# Altium footprint library PcbLib.PcbLib: 42 footprints (part 1 of 3)
Each footprint in its own frame and in the unit in brackets; x right, y up, seen from the top. Pads: shape width x height; smd on the part's side, far side on the other; paste and mask are expansions set on the pad; w line width, h text height; cw(c..) or ccw(c..) is an arc to the next point about the centre after c.
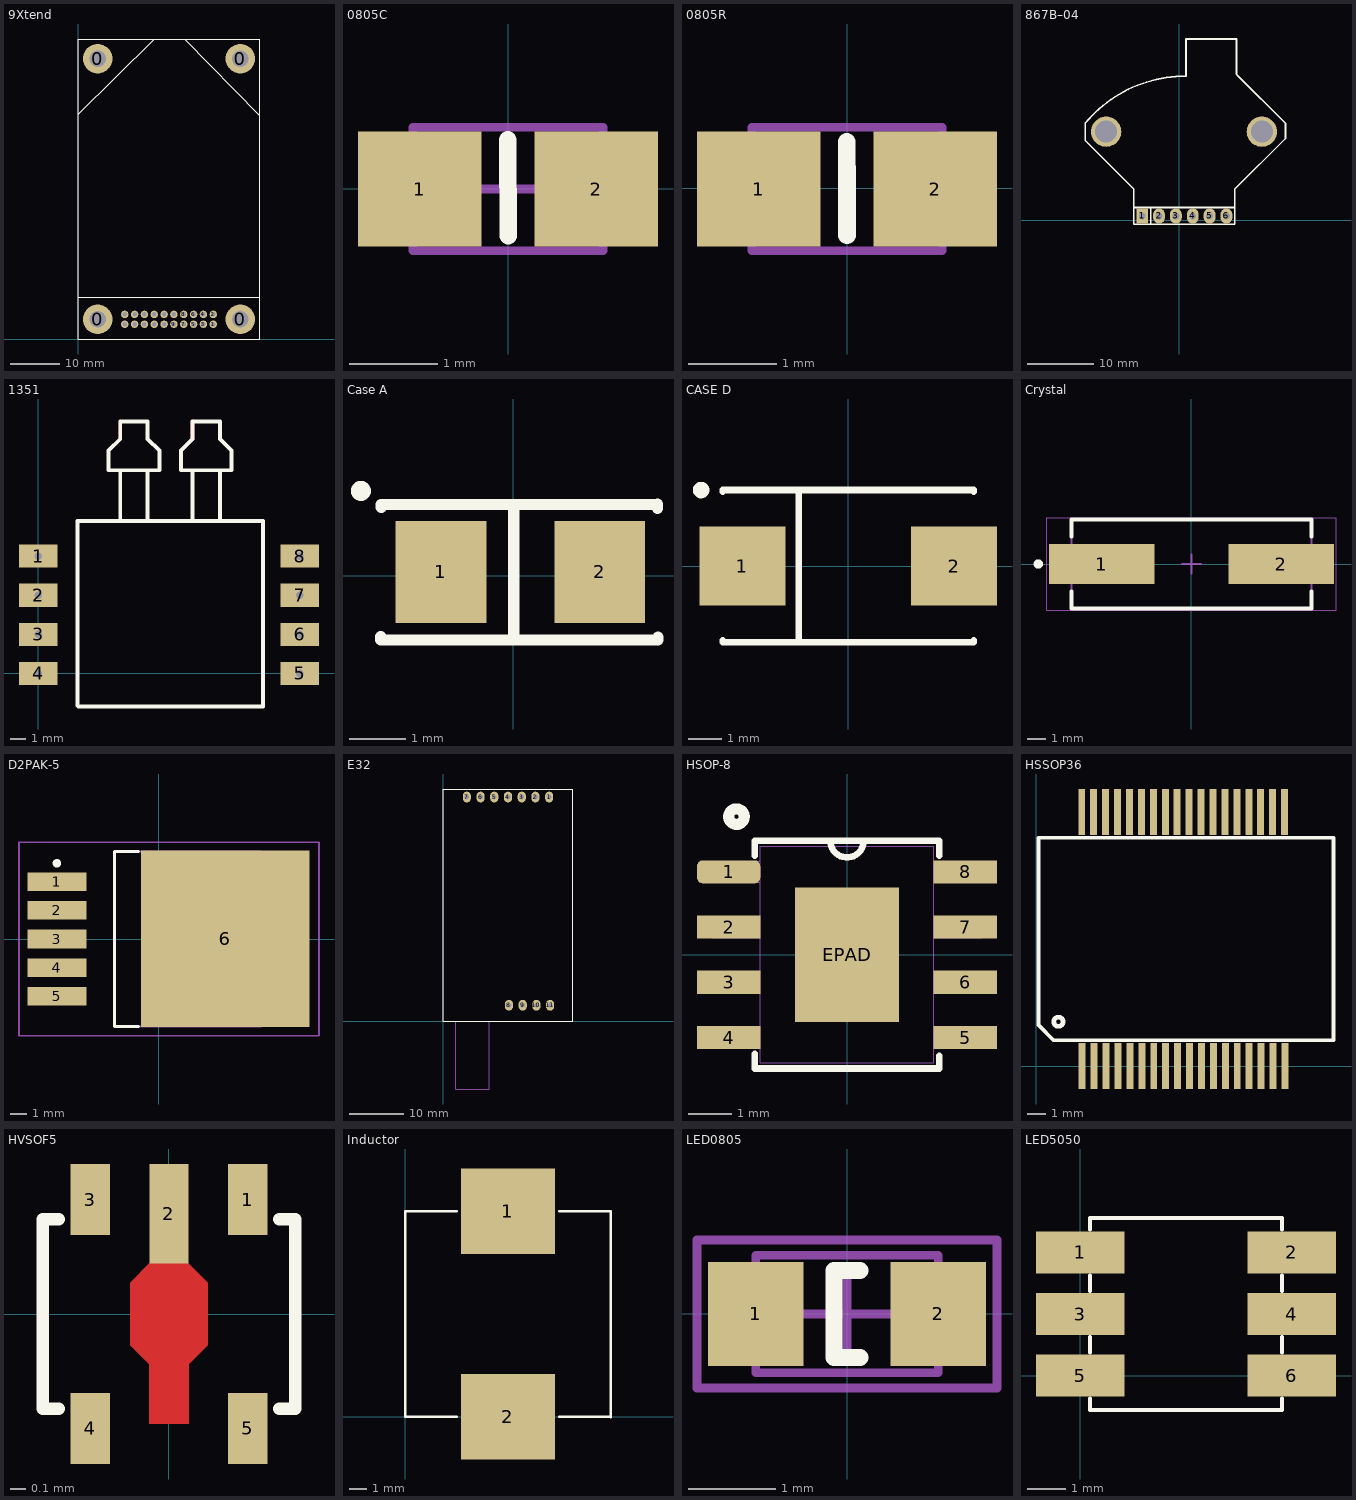
[diagram p0: the footprints below, top view; thin cyan lines are the x and y axes]

## 9Xtend [mm] "Maxstream 9Xtend"
pads (24):
  round 6 hole 3.3: 0(4,4) 0(4,57) 0(33,4) 0(33,57)
  round 1.524 hole 0.9: 1(27.5,3) 2(27.5,5) 3(25.5,3) 4(25.5,5) 5(23.5,3) 6(23.5,5) 7(21.5,3) 8(21.5,5) 9(19.5,3) 10(19.5,5) 11(17.5,3) 12(17.5,5) 13(15.5,3) 14(15.5,5) 15(13.5,3) 16(13.5,5) 17(11.5,3) 18(11.5,5) 19(9.5,3) 20(9.5,5)
Top Overlay:
  lines w0.1: 0,0 37,0 37,61 0,61 0,0
  lines w0.2: 0,8.5 37,8.5
  lines w0.254: 0,45.7 15.5,60.9 ; 21.7,61 36.9,45.5

## 0805C [mm]
pads (2):
  rect 1.4x1.3 smd: 1(-1,-0.001) 2(1,-0.001)
Top Overlay:
  lines w0.2: -0.004,0.555 0.004,-0.532
Mechanical 13:
  lines w0.1: -1.075,-0.701 -1.075,0.699 1.075,0.699 1.075,-0.701 -1.075,-0.701
Mechanical 15:
  lines w0.1: -0.5,-0.001 0.5,-0.001 ; 0,-0.501 0,0.499
3D body "User Library-CAPC2013X10.step": height 1, standoff 0, extent -1,-0.613 1,0.637

## 0805R [mm] "Resistor SMD"
pads (2):
  rect 1.4x1.3 smd: 1(-1,-0.006) 2(1,-0.006)
Top Overlay:
  lines w0.2: 0,-0.529 -0.001,0.529 0,-0.007
Mechanical 13:
  lines w0.1: -1.075,-0.706 1.075,-0.706 1.075,0.694 -1.075,0.694 -1.075,-0.706
3D body "User Library-RESC2012X05N.STEP": height 0.45, standoff 0, extent -0.989,-0.628 1.011,0.622

## 867B–04 [mil]
pads (8):
  rect 70x90 hole 40: 1(-220,25)
  oval 70x90 hole 40: 2(-120,25) 3(-20,25) 4(80,25) 5(180,25) 6(280,25)
  round 180 hole 130: ""(-434,525) ""(490,525)
Top Overlay:
  lines w10: -557.56,497.44 -557.56,576.42 ; -280,195 -270,185 ; -170,-25 -170,75 ; -160,75 210,75 ; 40,855 40,1075 340,1075 340,865 350,855 ; 40,855.06 ccw(c40,75) -557.56,576.42 ; 344.61,860.39 630,575 ; 630,555 630,575 ; -557.56,576.42 -557.56,472.56 -270,185 ; -270,75 -270,185 ; -270,75 330,75 ; -270,75 -270,-25 330,-25 330,75 ; 330,75 330,185 630,485 630,575
3D body "User Library-MPX 5700GP.STEP": height 338.84, standoff -115.53, extent -569.87,24.14 630.39,1284.34

## 1351 [mm]
pads (8):
  rect 2.5x1.5 hole 0.508: 1(0,7.62) 2(0,5.08) 3(0,2.54) 4(0,0) 5(17,0) 6(17,2.54) 7(17,5.08) 8(17,7.62)
Top Layer:
  lines w0.254: 5.334,15.24 5.334,16.383 ; 10.033,15.24 10.033,16.383
Top Overlay:
  lines w0.254: 2.54,-2.094 2.54,9.906 14.605,9.906 14.605,-2.159 2.605,-2.159 ; 5.334,9.906 5.334,13.208 ; 7.112,9.906 7.112,13.208 ; 10.033,9.906 10.033,13.208 ; 11.811,9.906 11.811,13.208 ; 4.572,13.208 7.874,13.208 7.874,14.478 7.112,15.24 7.112,16.383 5.334,16.383 5.334,15.24 4.572,14.478 4.572,13.208 ; 9.271,13.208 9.271,14.478 10.033,15.24 10.033,16.383 11.811,16.383 11.811,15.24 12.573,14.478 12.573,13.208 9.271,13.208

## Case A [mm] "SMD Tantalium Capacitor"
pads (2):
  rect 1.6x1.8 smd: 1(-1.272,0.072) 2(1.528,0.072)
Top Overlay:
  circle w0.25: c-2.685,1.5 r0.051
  lines w0.2: -2.334,-1.126 -2.334,-1.076 ; -2.328,-1.132 2.557,-1.132 ; -2.328,1.21 -2.328,1.26 2.549,1.26 ; 0.01,-1.117 0.01,1.244 ; 2.548,1.19 2.548,1.261 ; 2.557,-1.128 2.557,-1.078
3D body "CaseA.step": height 1.82, standoff 0.01, extent -1.61,-0.832 1.79,0.968

## CASE D [mm]
pads (2):
  rect 2.6x2.4 smd: 1(-3.2,0) 2(3.2,0)
Top Overlay:
  circle w0.25: c-4.45,2.3 r0.125
  lines w0.2: -3.8,-2.25 -3.8,-2.3 3.8,-2.3 3.8,-2.25 ; -3.8,2.25 -3.8,2.3 3.8,2.3 3.8,2.25 ; -1.5,-2.3 -1.5,2.3
3D body "CaseD.stp": height 3.11, standoff 0.01, extent -3.75,-2.373 3.85,2.227

## Crystal [mm]
pads (2):
  rect 5.6x2.1 smd: 1(-4.75,0) 2(4.75,0)
Top Overlay:
  circle w0.25: c-8.1,0 r0.125
  lines w0.2: -6.35,-1.45 -6.35,-2.35 6.35,-2.35 6.35,-1.45 ; -6.35,1.45 -6.35,2.35 6.35,2.35 6.35,1.45
Mechanical 13:
  lines w0.1: -6.35,-2.35 6.35,-2.35 6.35,2.35 -6.35,2.35 -6.35,-2.35
Mechanical 15:
  lines w0.05: -7.65,-2.45 -7.65,2.45 7.65,2.45 7.65,-2.45 -7.65,-2.45
  lines w0.1: -0.5,0 0.5,0 ; 0,-0.5 0,0.5
3D body "User Library-HC49US.STEP": height 4.2, standoff 0, extent -6.35,-2.37 6.35,2.33

## D2PAK-5 [mm]
height 4.5
pads (6):
  rect 3.5x1.1 smd: 1(-6.05,3.4) 2(-6.05,1.7) 3(-6.05,0) 4(-6.05,-1.7) 5(-6.05,-3.4)
  rect 10x10.5 smd: 6(3.953,0.012)
Top Overlay:
  circle w0.25: c-6.05,4.5 r0.125
  lines w0.2: -1.2,-5.2 -2.624,-5.2 -2.624,5.2 -1.2,5.2
Mechanical 13:
  lines w0.1: -2.624,-5.2 -2.624,5.2 6.1,5.2 6.1,-5.2 -2.624,-5.2
Mechanical 15:
  lines w0.1: -0.5,0 0.5,0 ; 0,-0.5 0,0.5 ; -8.3,-5.75 -8.3,5.75 9.528,5.75 9.528,-5.75 -8.3,-5.75
3D body "User Library-TO-263-5.STEP": height 4.56, standoff 0, extent -6.821,-5.068 7.194,5.092

## E32 [mm]
pads (11):
  oval 1.5x2 hole 0.9: 1(19.62,41.5) 2(17.08,41.5) 3(14.54,41.5) 4(12,41.5) 5(9.46,41.5) 6(6.92,41.5) 7(4.38,41.5) 8(12.18,3) 9(14.72,3) 10(17.26,3) 11(19.8,3)
Top Overlay:
  lines w0.2: 0,0 24,0 24,43 0,43 0,0
Mechanical 1:
  lines w0.2: 2.3,-12.5 8.5,-12.5 8.5,0 2.3,0 2.3,-12.5

## HSOP-8 [mm] "DDA Package  8-Pin SOIC with Thermal Pad"
pads (9):
  rrect50% 1.455x0.533 smd paste+0 mask+0: 1(-2.721,1.905)
  rect 1.455x0.533 smd paste+0 mask+0: 2(-2.721,0.635) 3(-2.721,-0.635) 4(-2.721,-1.905) 5(2.721,-1.905) 6(2.721,-0.635) 7(2.721,0.635) 8(2.721,1.905)
  rect 2.4x3.1 smd paste-1.537 mask+0: EPAD(0,0)
Top Overlay:
  circle w0.254: c-2.54,3.175 r0.18
  lines w0.15: -0.381,2.616 ccw(c0,2.616) 0.381,2.616
  lines w0.152: -2.121,-2.616 2.121,-2.616 ; -2.121,2.616 2.121,2.616
  lines w0.16: -2.121,-2.616 -2.121,-2.286 ; -2.121,2.286 -2.121,2.616 ; 2.121,-2.616 2.121,-2.324 ; 2.121,2.286 2.121,2.616
Top Paste:
  region: 1.1,1.45 -1.1,1.45 -1.1,0.1 1.1,0.1
  region: 1.1,-0.1 -1.1,-0.1 -1.1,-1.45 1.1,-1.45
Mechanical 13:
  lines w0: -0.305,2.489 ccw(c0,2.489) 0.305,2.489
  lines w0.025: -3.099,-2.146 -3.099,-1.664 -1.994,-1.664 -1.994,-2.146 -3.099,-2.146 ; -3.099,-0.876 -3.099,-0.394 -1.994,-0.394 -1.994,-0.876 -3.099,-0.876 ; -3.099,0.394 -3.099,0.876 -1.994,0.876 -1.994,0.394 -3.099,0.394 ; -3.099,1.664 -3.099,2.146 -1.994,2.146 -1.994,1.664 -3.099,1.664 ; -1.994,-2.489 1.994,-2.489 1.994,2.489 -1.994,2.489 -1.994,-2.489 ; 1.994,-2.146 1.994,-1.664 3.099,-1.664 3.099,-2.146 1.994,-2.146 ; 1.994,-0.876 1.994,-0.394 3.099,-0.394 3.099,-0.876 1.994,-0.876 ; 1.994,0.394 1.994,0.876 3.099,0.876 3.099,0.394 1.994,0.394 ; 1.994,1.664 1.994,2.146 3.099,2.146 3.099,1.664 1.994,1.664
3D body: height 0.25, standoff 0, extent 0,0 0.254,0.254
3D body "DDA0008J.stp": height 1.57, standoff 0, extent -3.014,-2.45 3.014,2.45

## HSSOP36 [mm] "PowerPAD SSOP - 3.6 mm max height"
height 3.6
pads (36):
  rect 0.38x2.5 smd: 1(2.51,0.019) 2(3.16,0.019) 3(3.81,0.019) 4(4.46,0.019) 5(5.11,0.019) 6(5.76,0.019) 7(6.41,0.019) 8(7.06,0.019) 9(7.71,0.019) 10(8.36,0.019) 11(9.01,0.019) 12(9.66,0.019) 13(10.31,0.019) 14(10.96,0.019) 15(11.61,0.019) 16(12.26,0.019) 17(12.91,0.019) 18(13.56,0.019) 19(13.538,13.862) 20(12.888,13.862) 21(12.238,13.862) 22(11.588,13.862) 23(10.938,13.862) 24(10.288,13.862) 25(9.638,13.862) 26(8.988,13.862) 27(8.338,13.862) 28(7.688,13.862) 29(7.038,13.862) 30(6.388,13.862) 31(5.738,13.862) 32(5.088,13.862) 33(4.438,13.862) 34(3.788,13.862) 35(3.138,13.862) 36(2.488,13.862)
Top Overlay:
  circle w0.254: c1.218,2.432 r0.254
  lines w0.2: 0.131,2.249 0.964,1.416 16.204,1.416 16.204,12.465 0.131,12.465 0.131,2.249
3D body "User Library-DRV8432.STEP": height 4, standoff 0, extent -0.001,-0.003 15.999,14.497

## HVSOF5 [mm]
pads (5):
  rect 0.25x0.45 smd: 1(0.5,0.725) 3(-0.5,0.725) 4(-0.5,-0.725) 5(0.5,-0.725)
  rect 0.25x0.63 smd mask+0.102: 2(0,0.635)
Top Layer:
  region: -0.125,-0.695 -0.125,-0.318 -0.246,-0.197 -0.246,0.199 -0.119,0.326 0.119,0.326 0.247,0.198 0.247,-0.197 0.246,-0.197 0.125,-0.318 0.125,-0.695
Top Overlay:
  lines w0.08: -0.699,-0.601 -0.8,-0.601 -0.8,0.601 -0.699,0.601 ; 0.699,-0.601 0.8,-0.601 0.8,0.601 0.699,0.601
  text "." at 0.93,0.81 h0.2
3D body: height 0.5, standoff 0, extent -0.78,-0.612 0.82,0.59

## Inductor [mm] "Inductor 12*12*7"
pads (2):
  rect 5.5x5 smd: 1(6,12) 2(6,0)
Top Overlay:
  lines w0.16: 0,0 0,12 ; 0,11.999 3,11.999 ; 0.001,-0.001 3.001,-0.001 ; 9.001,-0.001 12.001,-0.001 ; 9,11.999 12,11.999 ; 12.001,-0.002 12.001,11.998
3D body "User Library-744770222.step": height -0.45, standoff -8.45, extent -0.009,0.001 11.991,12.001

## LED0805 [mm]
pads (2):
  rect 1.1x1.2 smd: 1(-1.05,0) 2(1.05,0)
Top Overlay:
  lines w0.2: 0.15,-0.5 -0.15,-0.5 -0.15,0.5 0.15,0.5
Mechanical 13:
  lines w0.1: -1.05,-0.675 -1.05,0.675 1.05,0.675 1.05,-0.675 -1.05,-0.675
Mechanical 15:
  lines w0.1: -0.5,0 0.5,0 ; 0,-0.5 0,0.5 ; -1.725,-0.85 -1.725,0.85 1.725,0.85 1.725,-0.85 -1.725,-0.85
3D body "WL-SMCW_0805_LED.stp": height 0.68, standoff -0.02, extent -1,-0.625 1,0.625

## LED5050 [mm] "LED RGB size 5050"
height 1.6
pads (6):
  rect 2.3x1.1 smd: 1(0,3.2) 2(5.5,3.2) 3(0,1.6) 4(5.5,1.6) 5(0,0) 6(5.5,0)
Top Overlay:
  lines w0.1: 0.25,-0.6 0.25,-0.9 5.25,-0.9 5.25,-0.6 ; 0.25,0.6 0.25,1 ; 0.25,2.2 0.25,2.6 ; 0.25,3.8 0.25,4.1 5.25,4.1 5.25,3.8 ; 5.25,0.6 5.25,1 ; 5.25,2.2 5.25,2.6
3D body "led5050.step": height 1.61, standoff 0, extent 0.05,-0.9 5.45,4.1